# Altium schematic symbol library GateDrivers.SchLib: 2 symbols
Pins are listed as number, name and electrical type; pins without a type are passive.

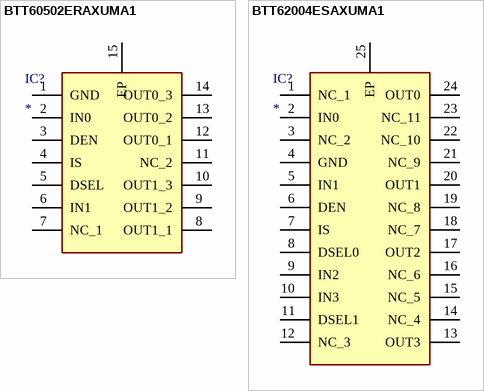
[diagram p0: symbols BTT60502ERAXUMA1 to BTT62004ESAXUMA1]

## BTT60502ERAXUMA1
designator IC?
Integrated Circuit; Manufacturer_Name: Infineon; Manufacturer_Part_Number: BTT60502ERAXUMA1; Description: Current Limit Switch High Side; Datasheet Link: https://www.infineon.com/dgdl/Infineon-BTT6050-2ERA-DS-v01_00-EN.pdf?fileId=5546d46269e1c019016a21d599df0d6a; Height: 1.15mm; Mouser Part Number: 726-BTT60502ERAXUMA1; Mouser Price/Stock: https://www.mouser.co.uk/ProductDetail/Infineon-Technologies/BTT60502ERAXUMA1?qs=mAH9sUMRCtsi1%2FDCmYjCiw%3D%3D; Arrow Part Number: BTT60502ERAXUMA1; Arrow Price/Stock: https://www.arrow.com/en/products/btt60502eraxuma1/infineon-technologies-ag?region=nac
footprint SOIC127P600X115-15N
pins: 1 GND, 2 IN0, 3 DEN, 4 IS, 5 DSEL, 6 IN1, 7 NC_1, 8 OUT1_1, 9 OUT1_2, 10 OUT1_3, 11 NC_2, 12 OUT0_1, 13 OUT0_2, 14 OUT0_3, 15 EP

## BTT62004ESAXUMA1
designator IC?
Integrated Circuit; Manufacturer_Name: Infineon; Manufacturer_Part_Number: BTT62004ESAXUMA1; Description: Quad Channel Smart High-Side Power Switch; Datasheet Link: https://componentsearchengine.com/Datasheets/2/BTT62004ESAXUMA1.pdf; Height: 1.15mm; Mouser Part Number: 726-BTT62004ESAXUMA1; Mouser Price/Stock: https://www.mouser.co.uk/ProductDetail/Infineon-Technologies/BTT62004ESAXUMA1?qs=unwgFEO1A6tpV1sLwJtTRA%3D%3D; Arrow Part Number: BTT62004ESAXUMA1; Arrow Price/Stock: https://www.arrow.com/en/products/btt62004esaxuma1/infineon-technologies-ag
footprint SOP65P600X115-25N (Footprint not found)
pins: 1 NC_1, 2 IN0, 3 NC_2, 4 GND, 5 IN1, 6 DEN, 7 IS, 8 DSEL0, 9 IN2, 10 IN3, 11 DSEL1, 12 NC_3, 13 OUT3, 14 NC_4, 15 NC_5, 16 NC_6, 17 OUT2, 18 NC_7, 19 NC_8, 20 OUT1, 21 NC_9, 22 NC_10, 23 NC_11, 24 OUT0, 25 EP